# Altium schematic symbol library VR10S05.SchLib: 2 symbols
Pins are listed as number, name and electrical type; pins without a type are passive.

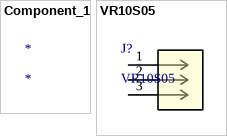
[diagram p0: symbols Component_1 to VR10S05]

## Component_1
designator *

## VR10S05
designator J?
No Description Available; Mfr_Name: XP Power; Copyright: Copyright (C) 2023 Ultra Librarian. All rights reserved.; Manufacturer_Part_Number: VR10S05; Digi-Key_Part_Number_1: 1470-VR10S05-ND; RefDes: RefDes; Type: DEV
footprint CONN3_10S05_XPP
pins: 1, 2, 3